# Altium schematic symbol library PwrSupply-Schematics-Library.SchLib: 16 symbols
Pins are listed as number, name and electrical type; pins without a type are passive.

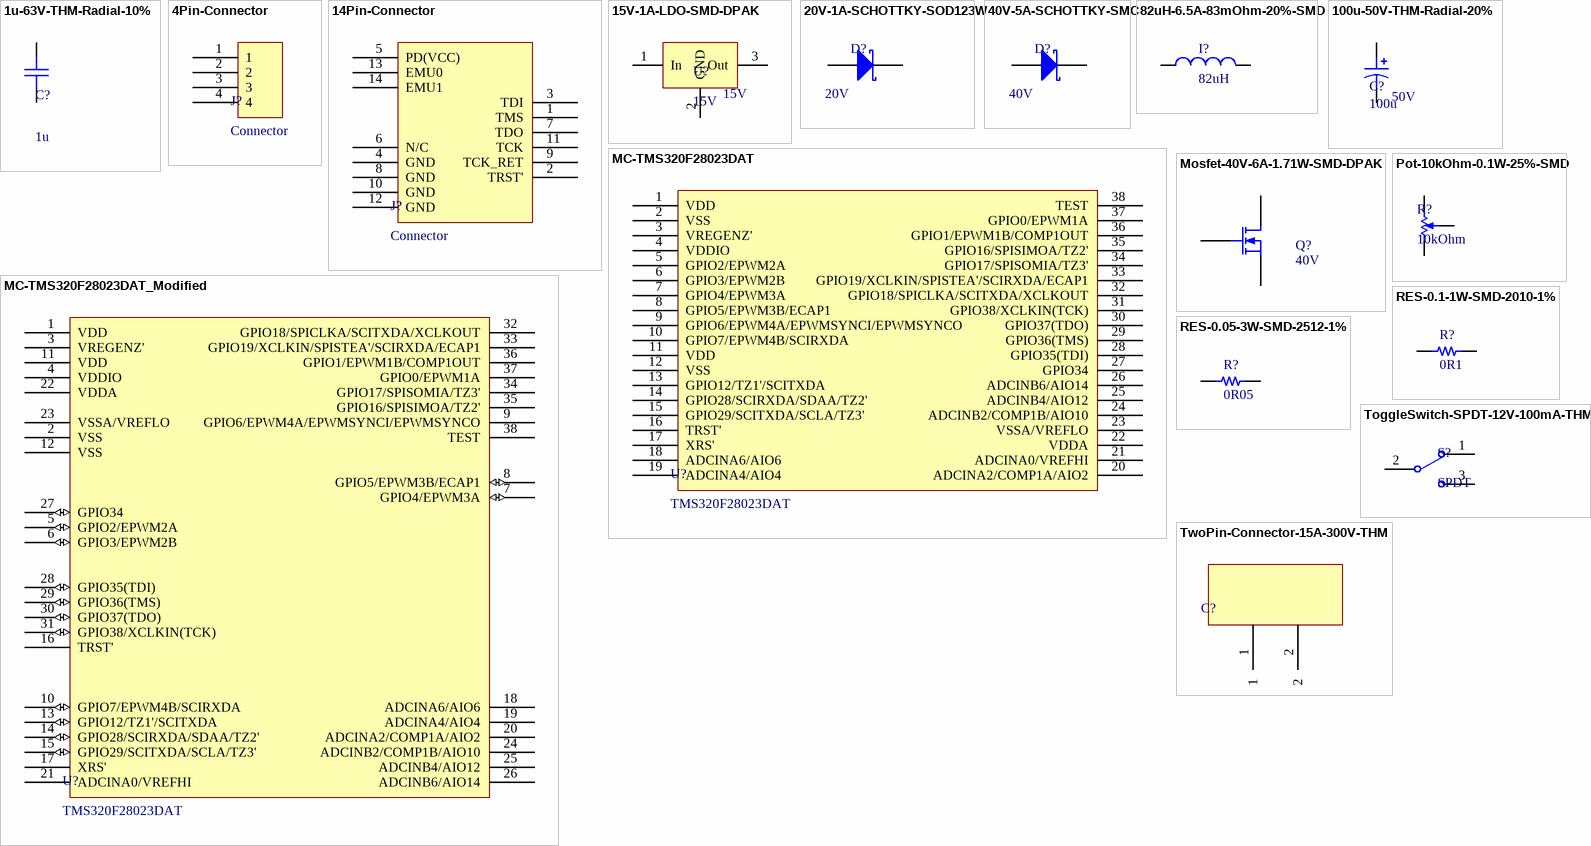
[diagram p0: symbols 1u-63V-THM-Radial-10% to TwoPin-Connector-15A-300V-THM]

## 1u-63V-THM-Radial-10%
designator C?, comment 1u
Capacitor, 1uF, 63V Voltage Rating, RADIAL Package; ManufacturerReference: R82DC4100AA60J; ManufacturerName: KEMET; Material: Polyester; Other: 5%; PackageReference: TH-RADIAL-7.2X5.0mm-5mmPitch; DistributorReference: 399-5860-ND; DistributorName: Digikey; InventoryNumber: *; Value: 1uF; Category: Capacitor; VoltageRating: 63V
footprint CAP-TH-Radial_1uF-Non_Polarised-KEMET (Radial-Through Hole-5mmPitch-(7.20mm x 5.00mm))
pins: 1, 2

## 4Pin-Connector
designator J?, comment Connector
4Pin-Connector; Distributor: Digikey; DistributorReference: *; Manufacturer: *; ManufacturerReference: *; InventoryNumber: *; VoltageRating: *; CurrentRating: *
pins: 1, 2, 3, 4

## 14Pin-Connector
designator J?, comment Connector
14Pin-Connector; Manufacturer: On Shore Technology Inc.; ManufacturerReference: 302-S141; VoltageRating: 250V; CurrentRating: 3A; Distributor: Digikey; DistributorReference: ED10522-ND; InventoryNumber: *
pins: 1 TMS, 2 TRST', 3 TDI, 4 GND, 5 PD(VCC), 6 N/C, 7 TDO, 8 GND, 9 TCK_RET, 10 GND, 11 TCK, 12 GND, 13 EMU0, 14 EMU1

## 15V-1A-LDO-SMD-DPAK
designator U?, comment 15V
Voltage Regulator, 15V OutputVoltage, 1A MaxCurrent, LDO Type, DPAK Package; Manufacturer: ON Semiconductor; ManufacturerReference: MC7815CDTG; InputVoltageRating: 35V; Distributor: Digikey; DistributorReference: MC7815CDTGOS-ND; InventoryNumber: *; Type: LDO; CurrentRating: 1A; Package: DPAK/TO252-3; OutputVoltage: 15V
pins: 1 In, 2 GND, 3 Out

## 20V-1A-SCHOTTKY-SOD123W
designator D?  VoltageRating: 20V
Diode, 20V Voltage Rating, 1A Current Rating, SCHOTTKY Type, SOD123W Package; Manufacturer: Nexperia USA Inc.; ManufacturerReference: PMEG2010ER,115; PackageReference: CFP3-SOD123W; Distributor: Digikey; DistributorReference: 1727-5192-1-ND; InventoryNumber: *; Type: SCHOTTKY
footprint CFP3-SOD123W-Nexperia USA Inc. (SODFL, 2-Leads, Body 1.70x3.50mm, IPC High Density)
pins: 1 A, 2 K

## 40V-5A-SCHOTTKY-SMC
designator D?  VoltageRating: 40V
Diode, 40V Voltage Rating, 5A Current Rating, SCHOTTKY Type, SMC Package; Manufacturer: Diodes Incorporated; ManufacturerReference: B540C-13-F; PackageReference: SMC; Distributor: Digikey; DistributorReference: B540C-FDICT-ND; InventoryNumber: *; Type: SCHOTTKY
footprint DIOM6959X25L (Molded Diode, 2-Leads, Body 6.85x5.90mm, IPC High Density)
pins: 1 A, 2 K

## 82uH-6.5A-83mOhm-20%-SMD
designator I?, comment 82uH
82u, 6.5A Current Rating, 83mOhm Resistance, ThroughHole Package; ManufacturerName: Pulse Electronics Power; ManufacturerReference: PA4344.823ANLT; Other: 20%; Category: Inductor; DistributorName: Digikey; DistributorReference: 553-4038-1-ND; InventoryNumber: *; Resistance: 83mOhm; PackageReference: *; Value: 82uH; CurrentRating: 6.5A
pins: 1, 2

## 100u-50V-THM-Radial-20%
designator C?, comment 100u  VoltageRating: 50V
Polarized Capacitor, 100uF, 50V Voltage Rating, Through Hole Radial Package; ManufacturerReference: ECA-1HM101; ManufacturerName: Panasonic Electronic Components; Other: 20%, 2000hr, 85C; Material: Alum; PackageReference: Through Hole Radial-3.5mmLeadSpacing; DistributorReference: P5182-ND; DistributorName: Digikey; Value: 100uF; InventoryNumber: *; Category: Capacitor Polarized
footprint CAP-100uF-50V-20%-THM-Radial Panasonic Electronic Components (THM-Radial- Pitch3.5mm)
pins: 1, 2

## MC-TMS320F28023DAT
designator U?, comment TMS320F28023DAT
IC MCU 32BIT 64KB FLASH 38TSSOP; Manufacturer: Texas Instruments; Distributor: Digikey; DistributorReference: 296-27220-ND; ManufacturerReference: TMS320F28023DAT; InventoryNumber: *; Package: 38TSSOP-6.1mmWidth
pins: 1 VDD, 2 VSS, 3 VREGENZ', 4 VDDIO, 5 GPIO2/EPWM2A, 6 GPIO3/EPWM2B, 7 GPIO4/EPWM3A, 8 GPIO5/EPWM3B/ECAP1, 9 GPIO6/EPWM4A/EPWMSYNCI/EPWMSYNCO, 10 GPIO7/EPWM4B/SCIRXDA, 11 VDD, 12 VSS, 13 GPIO12/TZ1'/SCITXDA, 14 GPIO28/SCIRXDA/SDAA/TZ2', 15 GPIO29/SCITXDA/SCLA/TZ3', 16 TRST', 17 XRS', 18 ADCINA6/AIO6, 19 ADCINA4/AIO4, 20 ADCINA2/COMP1A/AIO2, 21 ADCINA0/VREFHI, 22 VDDA, 23 VSSA/VREFLO, 24 ADCINB2/COMP1B/AIO10, 25 ADCINB4/AIO12, 26 ADCINB6/AIO14, 27 GPIO34, 28 GPIO35(TDI), 29 GPIO36(TMS), 30 GPIO37(TDO), 31 GPIO38/XCLKIN(TCK), 32 GPIO18/SPICLKA/SCITXDA/XCLKOUT, 33 GPIO19/XCLKIN/SPISTEA'/SCIRXDA/ECAP1, 34 GPIO17/SPISOMIA/TZ3', 35 GPIO16/SPISIMOA/TZ2', 36 GPIO1/EPWM1B/COMP1OUT, 37 GPIO0/EPWM1A, 38 TEST

## MC-TMS320F28023DAT_Modified
designator U?, comment TMS320F28023DAT
IC MCU 32BIT 64KB FLASH 38TSSOP; Manufacturer: Texas Instruments; Distributor: Digikey; DistributorReference: 296-27220-ND; ManufacturerReference: TMS320F28023DAT; InventoryNumber: *; Package: 38TSSOP-6.1mmWidth
pins: 1 VDD (power), 2 VSS, 3 VREGENZ' (power), 4 VDDIO (power), 5 GPIO2/EPWM2A (io), 6 GPIO3/EPWM2B (io), 7 GPIO4/EPWM3A (io), 8 GPIO5/EPWM3B/ECAP1 (io), 9 GPIO6/EPWM4A/EPWMSYNCI/EPWMSYNCO, 10 GPIO7/EPWM4B/SCIRXDA (io), 11 VDD (power), 12 VSS, 13 GPIO12/TZ1'/SCITXDA (io), 14 GPIO28/SCIRXDA/SDAA/TZ2' (io), 15 GPIO29/SCITXDA/SCLA/TZ3' (io), 16 TRST', 17 XRS', 18 ADCINA6/AIO6, 19 ADCINA4/AIO4, 20 ADCINA2/COMP1A/AIO2, 21 ADCINA0/VREFHI, 22 VDDA (power), 23 VSSA/VREFLO, 24 ADCINB2/COMP1B/AIO10, 25 ADCINB4/AIO12, 26 ADCINB6/AIO14, 27 GPIO34 (io), 28 GPIO35(TDI) (io), 29 GPIO36(TMS) (io), 30 GPIO37(TDO) (io), 31 GPIO38/XCLKIN(TCK) (io), 32 GPIO18/SPICLKA/SCITXDA/XCLKOUT, 33 GPIO19/XCLKIN/SPISTEA'/SCIRXDA/ECAP1, 34 GPIO17/SPISOMIA/TZ3', 35 GPIO16/SPISIMOA/TZ2', 36 GPIO1/EPWM1B/COMP1OUT, 37 GPIO0/EPWM1A, 38 TEST

## Mosfet-40V-6A-1.71W-SMD-DPAK
designator Q?, comment 40V
N-CH, 40V Voltage Rating, 6A Current Rating,  1.71W Power Rating, DPAK Package; Manfacturer: Diodes Incorporated; Material: METAL OXIDE; Type: N-Channel; DistributorName: Digikey; DistributorReference: DMN4040SK3-13DICT-ND; ManufacturerReference: Diodes Incorporated; VoltageRating: 40V; CurrentRating: 6A; Package: DPAK/TO252-3; PowerRating: 1.71W; InventoryNumber: *
pins: 1 G, 2 D, 3 S

## Pot-10kOhm-0.1W-25%-SMD
designator R?, comment 10kOhm
Potentiometer, 10kOhm Resistance, Current Rating, 0.1W Power Rating; Manufacturer: Bourns Inc.; ManufacturerReference: TC33X-2-103E; PowerRating: .1W; Other: 25%; Distributor: Digikey; DistributorReference: TC33X-103ECT-ND; Value: 10kOhm; CurrentRating: *; Package: *; InventoryNumber: *
pins: 1 CCW, 2 W, 3 CW

## RES-0.1-1W-SMD-2010-1%
designator R?, comment 0R1
Resistor, 0.1 Ohm, 1W Power Rating, 2010 Package; ManufacturerName: Stackpole Electronics Inc.; ManufacturerReference: CSRN2010FKR100; Value: 0.1 Ohm; PowerRating: 1 Watt; Other: 1%; DistributorName: Digikey; DistributorReference: CSRN2010FKR100CT-ND; InventoryNumber: *; PackageReference: 2010 (5025); Category: Resistor
footprint RES 2512/6432 (Chip Resistor, 2-Leads, Body 6.40x3.20mm, IPC High Density)
pins: 1, 2

## RES-0.05-3W-SMD-2512-1%
designator R?, comment 0R05
Resistor, 0.05 Ohm, 3W Power Rating, 2512 Package; ManufacturerName: Bourns Inc.; ManufacturerReference: CRA2512-FZ-R050ELF; PowerRating: 3Watt; Other: 1%; DistributorName: Digikey; DistributorReference: CRA2512-FZ-R050ELFCT-ND; InventoryNumber: *; Value: 0.05 Ohm; PackageReference: 2512; Category: Resistor
footprint RES 2512/6432 (Chip Resistor, 2-Leads, Body 6.40x3.20mm, IPC High Density)
pins: 1, 2

## ToggleSwitch-SPDT-12V-100mA-THM
designator S?, comment SPDT
Slide Toggle Switch, 12V Voltage Rating, 100mA Current Rating, Through Hole Package; Manufacturer: C&K; ManufacturerReference: OS102011MS2QN1; Distributor: Digikey; DistributorReference: CKN9565-ND; CurrentRating: 100mA; VoltageRating: 12V; Package: *; InventoryNumber: *; Circuit: SPDT
pins: 1 3, 2, 3 1

## TwoPin-Connector-15A-300V-THM
designator C?
Slide Toggle Switch, 300V Voltage Rating, 15A Current Rating,; Manufacturer: On Shore Technology Inc.; ManufacturerReference: OSTTA024163; InventoryNumber: SC037; Distributor: Digikey; DistributorReference: ED2580-ND; CurrentRating: 15A; VoltageRating: 300V; Package: 5.08mmPitch
pins: 1, 2